# Altium footprint library 我的底板.PcbLib: 9 footprints
Each footprint in its own frame and in the unit in brackets; x right, y up, seen from the top. Pads: shape width x height; smd on the part's side, far side on the other; paste and mask are expansions set on the pad; w line width, h text height; cw(c..) or ccw(c..) is an arc to the next point about the centre after c.
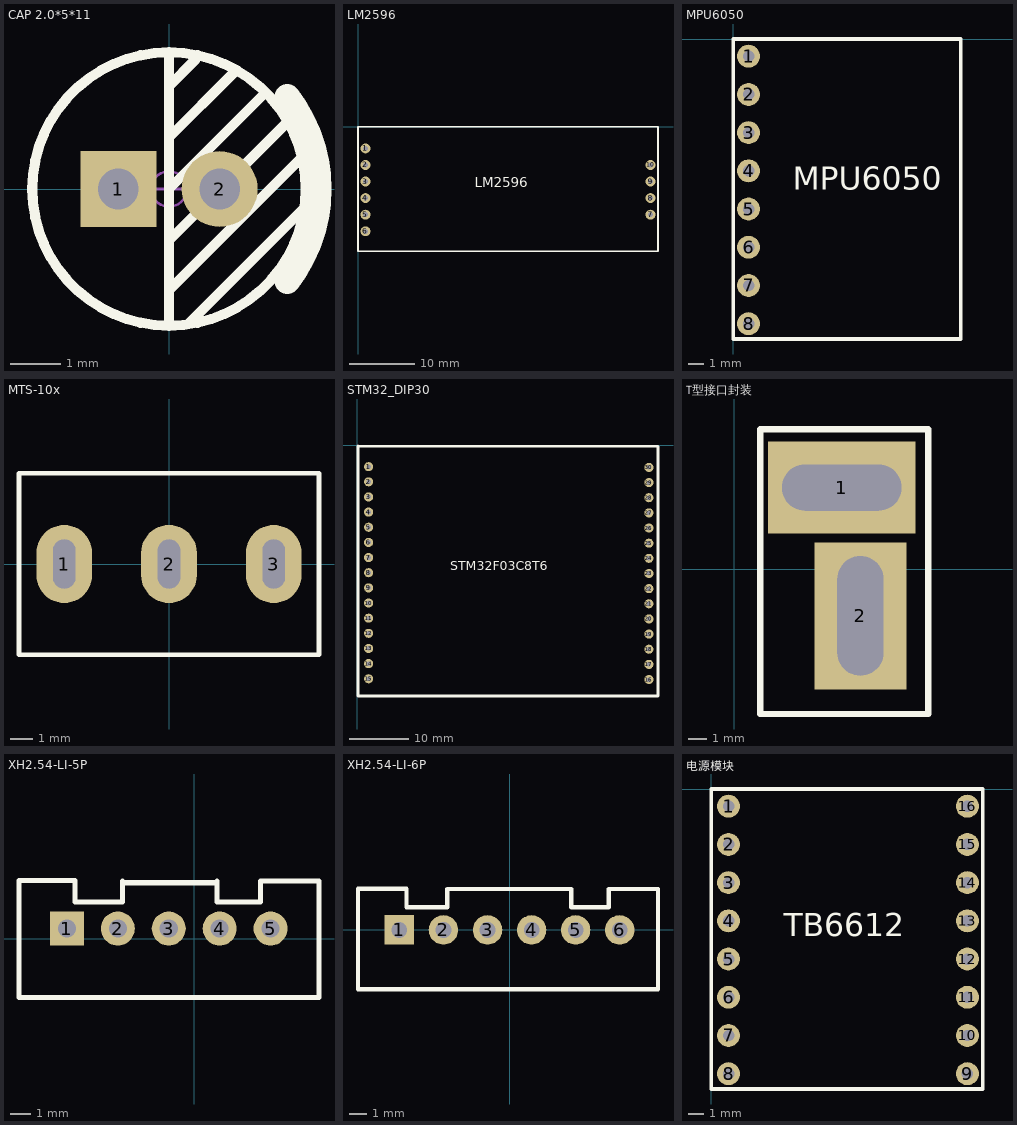
[diagram p0: the footprints below, top view; thin cyan lines are the x and y axes]

## CAP 2.0*5*11 [mm]
pads (2):
  rect 1.5x1.5 hole 0.8: 1(-1,0)
  round 1.5 hole 0.8: 2(1,0)
Top Overlay:
  circle w0.2: c0,0 r2.7
  lines w0.2: 0,-2.667 0,-2 ; 0,-1.016 2.286,1.27 ; 0,0 1.905,1.905 ; 0,1.016 1.27,2.286 ; 0,2.032 0.508,2.54 ; 0,2.667 0,-2 ; 0.381,-2.667 2.667,-0.381 ; 2.651,0.651 0,-2
  lines w0.5: 2.338,-1.819 ccw(c0,0) 2.338,1.819
Mechanical 15:
  circle w0.05: c0,0 r0.35
  lines w0.05: -0.5,0 0.5,0 ; 0,-0.5 0,0.5
3D body "CAP 2X5X11.STEP": height 11.04, standoff -3.42, extent -2.5,-2.5 2.51,2.5

## LM2596 [mil]
pads (10):
  round 60 hole 30: 1(45,-130) 2(45,-230) 3(45,-330) 4(45,-430) 5(45,-530) 6(45,-630) 7(1765,-530) 8(1765,-430) 9(1765,-330) 10(1765,-230)
Top Overlay:
  lines w10: 0,-750 0,0 1810,0 1810,-750 0,-750
  text "LM2596" at 705,-365 h60
3D body: height 10, standoff 0, extent -90,90 -90,90

## MPU6050 [mil]
pads (8):
  round 60 hole 30: 1(40,-45) 2(40,-145) 3(40,-245) 4(40,-345) 5(40,-445) 6(40,-545) 7(40,-645) 8(40,-745)
Top Overlay:
  lines w10: 0,-785 595,-785 595,0 0,0 0,-785
  text "MPU6050" at 155,-395 h60

## MTS-10x [mm]
pads (3):
  oval 2.5x3.5 hole 1 slot 2.2 at 90 deg: 1(-4.7,0) 2(0,0) 3(4.7,0)
Top Overlay:
  lines w0.203: -6.731,-4.064 -6.731,4.064 6.731,4.064 6.731,-4.064 -6.731,-4.064

## STM32_DIP30 [mil]
pads (30):
  round 60 hole 30: 1(75,-140) 2(75,-240) 3(75,-340) 4(75,-440) 5(75,-540) 6(75,-640) 7(75,-740) 8(75,-840) 9(75,-940) 10(75,-1040) 11(75,-1140) 12(75,-1240) 13(75,-1340) 14(75,-1440) 15(75,-1540) 16(1925,-1545) 17(1925,-1445) 18(1925,-1345) 19(1925,-1245) 20(1925,-1145) 21(1925,-1045) 22(1925,-945) 23(1925,-845) 24(1925,-745) 25(1925,-645) 26(1925,-545) 27(1925,-445) 28(1925,-345) 29(1925,-245) 30(1925,-145)
Top Overlay:
  lines w20: 5,-1655 1985,-1655 1985,-6.18 5,-3.22 5,-1655
  text "STM32F03C8T6" at 615,-825 h60
Mechanical 1:
  region: 895,90

## T型接口封装 [mm]
pads (2):
  rect 8x5 hole 6.5 slot 2.5 at 90 deg mask+0.35: 1(5.842,4.445)
  rect 5x8 hole 6.5 slot 2.5 at 0 deg mask+0.35: 2(6.858,-2.54)
Top Overlay:
  lines w0.352: 1.397,-7.874 1.397,7.62 10.541,7.62 10.541,-7.874 1.397,-7.874

## XH2.54-LI-5P [mm]
pads (5):
  rect 1.7x1.7 hole 0.9: 1(-6.35,0.508)
  round 1.7 hole 0.9: 2(-3.81,0.508) 3(-1.27,0.508) 4(1.27,0.508) 5(3.81,0.508)
Top Overlay:
  lines w0.254: -3.581,2.87 -3.581,1.829 -5.944,1.829 -5.944,2.896 -8.738,2.896 -8.738,-2.921 6.223,-2.921 6.223,2.87 ; -3.556,2.794 1.143,2.794 ; 1.143,2.87 1.143,1.829 3.302,1.829 3.302,2.87 6.147,2.87
3D body "XH2.54-6P.STEP": height 7.03, standoff -2.47, extent -9.699,-3.048 8.001,2.652

## XH2.54-LI-6P [mm]
pads (6):
  rect 1.7x1.7 hole 0.9: 1(-6.35,0)
  round 1.7 hole 0.9: 2(-3.81,0) 3(-1.27,0) 4(1.27,0) 5(3.81,0) 6(6.35,0)
Top Overlay:
  lines w0.254: -8.738,-3.429 8.56,-3.429 8.56,2.362 5.715,2.362 5.715,1.321 3.556,1.321 3.556,2.362 -3.581,2.362 -3.581,1.321 -5.944,1.321 -5.944,2.388 -8.738,2.388 -8.738,-3.429
3D body "XH2.54-6P.STEP": height 7.03, standoff -2.47, extent -8.85,-3.3 8.85,2.4

## 电源模块 [mil]
pads (16):
  round 60 hole 30: 1(45,-45) 2(45,-145) 3(45,-245) 4(45,-345) 5(45,-445) 6(45,-545) 7(45,-645) 8(45,-745) 9(670,-745) 10(670,-645) 11(670,-545) 12(670,-445) 13(670,-345) 14(670,-245) 15(670,-145) 16(670,-45)
Top Overlay:
  lines w10: 0,-785 710,-785 710,0 0,0 0,-785
  text "TB6612" at 190,-385 h60